# Altium integrated library U.FL-R-SMT-1_80_.IntLib: 1 symbol
Pins are listed as number, name and electrical type; pins without a type are passive.

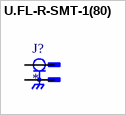
[diagram p0: symbol U.FL-R-SMT-1(80)]

## U.FL-R-SMT-1(80)
designator J?
U.FL (UMCC) Connector Receptacle, Male Pin 50 Ohms Surface Mount Solder; MF: Hirose Electric; MP: U.FL-R-SMT-1(80); SnapEDA_Link: https://www.snapeda.com/parts/U.FL-R-SMT-1(80)/Hirose/view-part/?ref=snap; Package: None; Value: *; Check_prices: https://www.snapeda.com/parts/U.FL-R-SMT-1(80)/Hirose/view-part/?ref=eda
footprint HIROSE_U.FL-R-SMT-1(80)
pins: G1 GND, G2 GND, SIG